# Altium footprint library IHLP2020CZER2R2M11.PcbLib: 1 footprints
Each footprint in its own frame and in the unit in brackets; x right, y up, seen from the top. Pads: shape width x height; smd on the part's side, far side on the other; paste and mask are expansions set on the pad; w line width, h text height; cw(c..) or ccw(c..) is an arc to the next point about the centre after c.
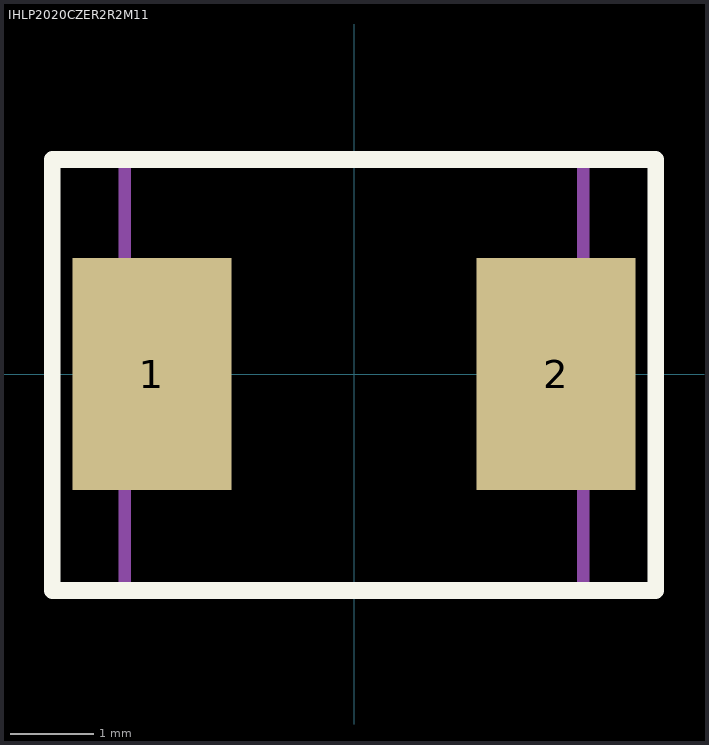
[diagram p0: the footprint, top view; thin cyan lines are the x and y axes]

## IHLP2020CZER2R2M11 [mm]
height 0.95
pads (2):
  rect 1.905x2.79 smd: 1(-2.425,0) 2(2.425,0)
Top Overlay:
  lines w0.2: -3.625,-2.6 3.625,-2.6 3.625,2.575 -3.625,2.575 -3.625,-2.6
Top Assembly:
  lines w0.15: -2.75,-2.6 -2.75,2.6 2.75,2.6 2.75,-2.6 -2.75,-2.6
  text "'.Designator'" at -0.675,-0.375 h0.8
3D body "IHLP2020CZER2R2M11.stp": height 3, standoff 0, extent -2.75,-2.6 2.75,2.6